# EAGLE library part RESARRAY_YC* (library 0-svo)
RESISTOR ARRAY YC16, 1/16W 0.8mm lead pitch
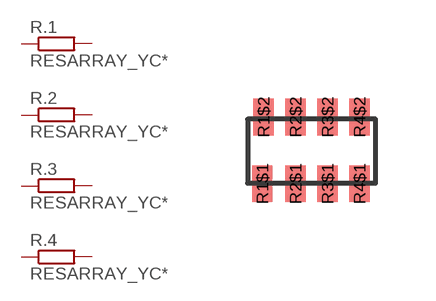
[diagram p0: symbol with the pads of RESSMD-YC16; footprint RESSMD-YC16]

Designator prefix R; gates .1=R-EU .2=R-EU .3=R-EU .4=R-EU

## RESARRAY_YC  [RESSMD-YC16]
R1$1  .1:1  pas
R1$2  .1:2  pas
R2$1  .2:1  pas
R2$2  .2:2  pas
R3$1  .3:1  pas
R3$2  .3:2  pas
R4$1  .4:1  pas
R4$2  .4:2  pas

## Footprint RESSMD-YC16 (pad centres in mm)
smd 0.508 x 0.914: R1$1 -1.23,-0.821; R1$2 -1.2,0.851; R2$1 -0.4,-0.821; R2$2 -0.4,0.851; R3$1 0.4,-0.821; R3$2 0.4,0.851; R4$1 1.2,-0.821; R4$2 1.2,0.851